# Altium schematic symbol library IC_Microchip_MCP73831T-2ATI-OT_eec.SchLib: 1 symbol
Pins are listed as number, name and electrical type; pins without a type are passive.

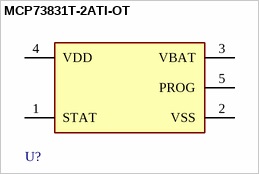
[diagram p0: symbol MCP73831T-2ATI-OT]

## MCP73831T-2ATI-OT
designator U?  (value not drawn)
pins: 1 STAT, 2 VSS (power), 3 VBAT (power), 4 VDD (power), 5 PROG